# Altium schematic symbol library Connectors.SchLib: 6 symbols
Pins are listed as number, name and electrical type; pins without a type are passive.

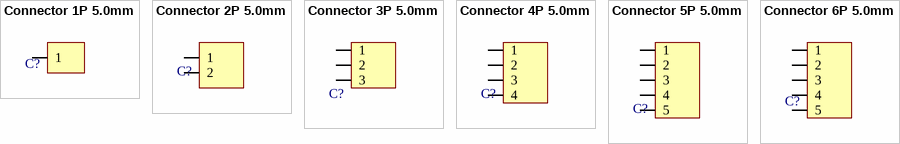
[diagram p0: symbols Connector 1P 5.0mm to Connector 6P 5.0mm]

## Connector 1P 5.0mm
designator C?  (value not drawn)
pins: 1

## Connector 2P 5.0mm
designator C?, comment DG128-5.0-02P-14  (value not drawn)
footprint DG128-5.0-02P-14
pins: 1, 2

## Connector 3P 5.0mm
designator C?, comment DG128-5.0-03P-14-00A(H)  (value not drawn)
pins: 1, 2, 3

## Connector 4P 5.0mm
designator C?  (value not drawn)
pins: 1, 2, 3, 4

## Connector 5P 5.0mm
designator C?  (value not drawn)
pins: 1, 2, 3, 4, 5

## Connector 6P 5.0mm
designator C?  (value not drawn)
pins: 1, 2, 3, 4, 5